# Altium footprint library con-pc.PcbLib: 5 footprints
Each footprint in its own frame and in the unit in brackets; x right, y up, seen from the top. Pads: shape width x height; smd on the part's side, far side on the other; paste and mask are expansions set on the pad; w line width, h text height; cw(c..) or ccw(c..) is an arc to the next point about the centre after c.
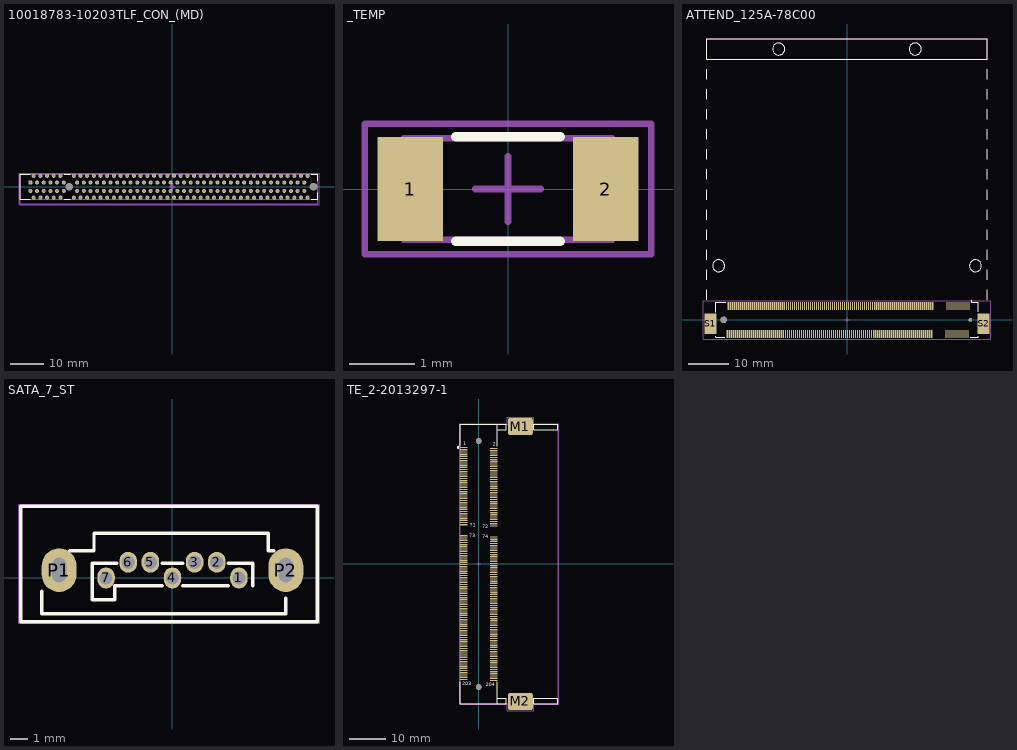
[diagram p0: the footprints below, top view; thin cyan lines are the x and y axes]

## 10018783-10203TLF_CON_(MD) [mm] "PCIe x16 Amphenol"
pads (166):
  rrect50% 1.2x1.2 hole 0.7: A1(-42.4,1.238)
  round 1.2 hole 0.7: A2(-41.4,3.238) A3(-40.4,1.238) A4(-39.4,3.238) A5(-38.4,1.238) A6(-37.4,3.238) A7(-36.4,1.238) A8(-35.4,3.238) A9(-34.4,1.238) A10(-33.4,3.238) A11(-32.4,1.238) A12(-29.4,3.238) A13(-28.4,1.238) A14(-27.4,3.238) A15(-26.4,1.238) A16(-25.4,3.238) A17(-24.4,1.238) A18(-23.4,3.238) A19(-22.4,1.238) A20(-21.4,3.238) A21(-20.4,1.238) A22(-19.4,3.238) A23(-18.4,1.238) A24(-17.4,3.238) A25(-16.4,1.238) A26(-15.4,3.238) A27(-14.4,1.238) A28(-13.4,3.238) A29(-12.4,1.238) A30(-11.4,3.238) A31(-10.4,1.238) A32(-9.4,3.238) A33(-8.4,1.238) A34(-7.4,3.238) A35(-6.4,1.238) A36(-5.4,3.238) A37(-4.4,1.238) A38(-3.4,3.238) A39(-2.4,1.238) A40(-1.4,3.238) A41(-0.4,1.238) A42(0.6,3.238) A43(1.6,1.238) A44(2.6,3.238) A45(3.6,1.238) A46(4.6,3.238) A47(5.6,1.238) A48(6.6,3.238) A49(7.6,1.238) A50(8.6,3.238) A51(9.6,1.238) A52(10.6,3.238) A53(11.6,1.238) A54(12.6,3.238) A55(13.6,1.238) A56(14.6,3.238) A57(15.6,1.238) A58(16.6,3.238) A59(17.6,1.238) A60(18.6,3.238) A61(19.6,1.238) A62(20.6,3.238) A63(21.6,1.238) A64(22.6,3.238) A65(23.6,1.238) A66(24.6,3.238) A67(25.6,1.238) A68(26.6,3.238) A69(27.6,1.238) A70(28.6,3.238) A71(29.6,1.238) A72(30.6,3.238) A73(31.6,1.238) A74(32.6,3.238) A75(33.6,1.238) A76(34.6,3.238) A77(35.6,1.238) A78(36.6,3.238) A79(37.6,1.238) A80(38.6,3.238) A81(39.6,1.238) A82(40.6,3.238) B1(-42.4,-1.262) B2(-41.4,-3.262) B3(-40.4,-1.262) B4(-39.4,-3.262) B5(-38.4,-1.262) B6(-37.4,-3.262) B7(-36.4,-1.262) B8(-35.4,-3.262) B9(-34.4,-1.262) B10(-33.4,-3.262) B11(-32.4,-1.262) B12(-29.4,-3.262) B13(-28.4,-1.262) B14(-27.4,-3.262) B15(-26.4,-1.262) B16(-25.4,-3.262) B17(-24.4,-1.262) B18(-23.4,-3.262) B19(-22.4,-1.262) B20(-21.4,-3.262) B21(-20.4,-1.262) B22(-19.4,-3.262) B23(-18.4,-1.262) B24(-17.4,-3.262) B25(-16.4,-1.262) B26(-15.4,-3.262) B27(-14.4,-1.262) B28(-13.4,-3.262) B29(-12.4,-1.262) B30(-11.4,-3.262) B31(-10.4,-1.262) B32(-9.4,-3.262) B33(-8.4,-1.262) B34(-7.4,-3.262) B35(-6.4,-1.262) B36(-5.4,-3.262) B37(-4.4,-1.262) B38(-3.4,-3.262) B39(-2.4,-1.262) B40(-1.4,-3.262) B41(-0.4,-1.262) B42(0.6,-3.262) B43(1.6,-1.262) B44(2.6,-3.262) B45(3.6,-1.262) B46(4.6,-3.262) B47(5.6,-1.262) B48(6.6,-3.262) B49(7.6,-1.262) B50(8.6,-3.262) B51(9.6,-1.262) B52(10.6,-3.262) B53(11.6,-1.262) B54(12.6,-3.262) B55(13.6,-1.262) B56(14.6,-3.262) B57(15.6,-1.262) B58(16.6,-3.262) B59(17.6,-1.262) B60(18.6,-3.262) B61(19.6,-1.262) B62(20.6,-3.262) B63(21.6,-1.262) B64(22.6,-3.262) B65(23.6,-1.262) B66(24.6,-3.262) B67(25.6,-1.262) B68(26.6,-3.262) B69(27.6,-1.262) B70(28.6,-3.262) B71(29.6,-1.262) B72(30.6,-3.262) B73(31.6,-1.262) B74(32.6,-3.262) B75(33.6,-1.262) B76(34.6,-3.262) B77(35.6,-1.262) B78(36.6,-3.262) B79(37.6,-1.262) B80(38.6,-3.262) B81(39.6,-1.262) B82(40.6,-3.262)
  round 0 hole 2.35 unplated mask+0.05: ""(-30.75,-0.012) ""(42.4,-0.012)
Top Overlay:
  lines w0.2: -42.4,-3.712 -45.4,-3.712 -45.4,3.688 -42.4,3.688 ; -32.3,-3.712 -30.5,-3.712 ; -32.3,3.688 -30.5,3.688 ; 41.7,-3.712 43.6,-3.712 43.6,-1.812 ; 41.7,3.688 43.6,3.688 43.6,1.788
Top Assembly (Mech3):
  lines w0.1: -45.4,-3.712 43.6,-3.712 ; -45.4,-5.112 -45.4,3.688 43.6,3.688 43.6,-5.112 -45.4,-5.112
  text ".Designator" at -5.998,-0.412 h1.2
Top Courtyard:
  circle w0.05: c-30.75,-0.012 r0.25
  circle w0.05: c0,0 r0.5
  lines w0.05: -31.085,-0.012 -30.415,-0.012 ; -30.75,-0.347 -30.75,0.323 ; -1,0 1,0 ; 0,-1 0,1 ; -45.8,-5.473 44,-5.473 44,4.088 -45.8,4.088 -45.8,-5.473
  lines w0.1: -0.5,0 0.5,0 ; 0,-0.5 0,0.5
3D body "AMPHENOL_10018783-10203TLF.x_t": height 11, standoff -4.4, extent -45.374,-5.116 43.626,3.684

## _TEMP [mm]
height 0.6
pads (2):
  rect 1x1.6 smd: 1(-1.5,0) 2(1.5,0)
Top Overlay:
  lines w0.15: -0.8,-0.8 0.8,-0.8 ; -0.8,0.8 0.8,0.8
Top Assembly (Mech3):
  lines w0.1: -1.6,-0.775 1.6,-0.775 1.6,0.775 -1.6,0.775 -1.6,-0.775
Top Courtyard:
  lines w0.1: -0.5,0 0.5,0 ; 0,-0.5 0,0.5 ; -2.2,-1 -2.2,1 2.2,1 2.2,-1 -2.2,-1
3D body "chip_1206_r.STEP": height 0.47, standoff -0.03, extent -1.65,-0.8 1.55,0.8

## ATTEND_125A-78C00 [mm]
pads (234):
  rect 0.3x2 smd: 1(30.39,3.5) 2(30.14,-3.5) 3(29.89,3.5) 4(29.64,-3.5) 5(29.39,3.5) 6(29.14,-3.5) 7(28.89,3.5) 8(28.64,-3.5) 9(28.39,3.5) 10(28.14,-3.5) 11(27.89,3.5) 12(27.64,-3.5) 13(27.39,3.5) 14(27.14,-3.5) 15(26.89,3.5) 16(26.64,-3.5) 17(26.39,3.5) 18(26.14,-3.5) 19(25.89,3.5) 20(25.64,-3.5) 21(25.39,3.5) 22(25.14,-3.5) 23(24.89,3.5) 24(24.64,-3.5) 25(21.39,3.5) 26(21.14,-3.5) 27(20.89,3.5) 28(20.64,-3.5) 29(20.39,3.5) 30(20.14,-3.5) 31(19.89,3.5) 32(19.64,-3.5) 33(19.39,3.5) 34(19.14,-3.5) 35(18.89,3.5) 36(18.64,-3.5) 37(18.39,3.5) 38(18.14,-3.5) 39(17.89,3.5) 40(17.64,-3.5) 41(17.39,3.5) 42(17.14,-3.5) 43(16.89,3.5) 44(16.64,-3.5) 45(16.39,3.5) 46(16.14,-3.5) 47(15.89,3.5) 48(15.64,-3.5) 49(15.39,3.5) 50(15.14,-3.5) 51(14.89,3.5) 52(14.64,-3.5) 53(14.39,3.5) 54(14.14,-3.5) 55(13.89,3.5) 56(13.64,-3.5) 57(13.39,3.5) 58(13.14,-3.5) 59(12.89,3.5) 60(12.64,-3.5) 61(12.39,3.5) 62(12.14,-3.5) 63(11.89,3.5) 64(11.64,-3.5) 65(11.39,3.5) 66(11.14,-3.5) 67(10.89,3.5) 68(10.64,-3.5) 69(10.39,3.5) 70(10.14,-3.5) 71(9.89,3.5) 72(9.64,-3.5) 73(9.39,3.5) 74(9.14,-3.5) 75(8.89,3.5) 76(8.64,-3.5) 77(8.39,3.5) 78(8.14,-3.5) 79(7.89,3.5) 80(7.64,-3.5) 81(7.39,3.5) 82(7.14,-3.5) 83(6.89,3.5) 84(6.64,-3.5) 85(6.39,3.5) 86(6.14,-3.5) 87(5.89,3.5) 88(5.64,-3.5) 89(5.39,3.5) 90(5.14,-3.5) 91(4.89,3.5) 92(4.64,-3.5) 93(4.39,3.5) 94(4.14,-3.5) 95(3.89,3.5) 96(3.64,-3.5) 97(3.39,3.5) 98(3.14,-3.5) 99(2.89,3.5) 100(2.64,-3.5) 101(2.39,3.5) 102(2.14,-3.5) 103(1.89,3.5) 104(1.64,-3.5) 105(1.39,3.5) 106(1.14,-3.5) 107(0.89,3.5) 108(0.64,-3.5) 109(0.39,3.5) 110(0.14,-3.5) 111(-0.11,3.5) 112(-0.36,-3.5) 113(-0.61,3.5) 114(-0.86,-3.5) 115(-1.11,3.5) 116(-1.36,-3.5) 117(-1.61,3.5) 118(-1.86,-3.5) 119(-2.11,3.5) 120(-2.36,-3.5) 121(-2.61,3.5) 122(-2.86,-3.5) 123(-3.11,3.5) 124(-3.36,-3.5) 125(-3.61,3.5) 126(-3.86,-3.5) 127(-4.11,3.5) 128(-4.36,-3.5) 129(-4.61,3.5) 130(-4.86,-3.5) 131(-5.11,3.5) 132(-5.36,-3.5) 133(-5.61,3.5) 134(-5.86,-3.5) 135(-6.11,3.5) 136(-6.36,-3.5) 137(-6.61,3.5) 138(-6.86,-3.5) 139(-7.11,3.5) 140(-7.36,-3.5) 141(-7.61,3.5) 142(-7.86,-3.5) 143(-8.11,3.5) 144(-8.36,-3.5) 145(-8.61,3.5) 146(-8.86,-3.5) 147(-9.11,3.5) 148(-9.36,-3.5) 149(-9.61,3.5) 150(-9.86,-3.5) 151(-10.11,3.5) 152(-10.36,-3.5) 153(-10.61,3.5) 154(-10.86,-3.5) 155(-11.11,3.5) 156(-11.36,-3.5) 157(-11.61,3.5) 158(-11.86,-3.5) 159(-12.11,3.5) 160(-12.36,-3.5) 161(-12.61,3.5) 162(-12.86,-3.5) 163(-13.11,3.5) 164(-13.36,-3.5) 165(-13.61,3.5) 166(-13.86,-3.5) 167(-14.11,3.5) 168(-14.36,-3.5) 169(-14.61,3.5) 170(-14.86,-3.5) 171(-15.11,3.5) 172(-15.36,-3.5) 173(-15.61,3.5) 174(-15.86,-3.5) 175(-16.11,3.5) 176(-16.36,-3.5) 177(-16.61,3.5) 178(-16.86,-3.5) 179(-17.11,3.5) 180(-17.36,-3.5) 181(-17.61,3.5) 182(-17.86,-3.5) 183(-18.11,3.5) 184(-18.36,-3.5) 185(-18.61,3.5) 186(-18.86,-3.5) 187(-19.11,3.5) 188(-19.36,-3.5) 189(-19.61,3.5) 190(-19.86,-3.5) 191(-20.11,3.5) 192(-20.36,-3.5) 193(-20.61,3.5) 194(-20.86,-3.5) 195(-21.11,3.5) 196(-21.36,-3.5) 197(-21.61,3.5) 198(-21.86,-3.5) 199(-22.11,3.5) 200(-22.36,-3.5) 201(-22.61,3.5) 202(-22.86,-3.5) 203(-23.11,3.5) 204(-23.36,-3.5) 205(-23.61,3.5) 206(-23.86,-3.5) 207(-24.11,3.5) 208(-24.36,-3.5) 209(-24.61,3.5) 210(-24.86,-3.5) 211(-25.11,3.5) 212(-25.36,-3.5) 213(-25.61,3.5) 214(-25.86,-3.5) 215(-26.11,3.5) 216(-26.36,-3.5) 217(-26.61,3.5) 218(-26.86,-3.5) 219(-27.11,3.5) 220(-27.36,-3.5) 221(-27.61,3.5) 222(-27.86,-3.5) 223(-28.11,3.5) 224(-28.36,-3.5) 225(-28.61,3.5) 226(-28.86,-3.5) 227(-29.11,3.5) 228(-29.36,-3.5) 229(-29.61,3.5) 230(-29.86,-3.5)
  rect 3x5.15 smd: S1(-34.06,-0.98) S2(34.06,-0.98)
  round 1.6 hole 1.6 unplated: ""(-30.75,0)
  round 0.9 hole 0.9 unplated: ""(30.75,0)
Top Overlay:
  circle w0.254: c-32,13.5 r1.5
  circle w0.254: c32,13.5 r1.5
  circle w0.254: c17,67.5 r1.5
  circle w0.254: c-17,67.5 r1.5
  circle w0.2: c31,4.75 r0.1
  lines w0.1: -35,5 -35,7.5 ; -35,10 -35,12.5 ; -35,15 -35,17.5 ; -35,20 -35,22.5 ; -35,25 -35,27.5 ; -35,30 -35,32.5 ; -35,35 -35,37.5 ; -35,40 -35,42.5 ; -35,45 -35,47.5 ; -35,50 -35,52.5 ; -35,55 -35,57.5 ; -35,60 -35,62.5 ; 35,5 35,7.5 ; 35,10 35,12.5 ; 35,15 35,17.5 ; 35,20 35,22.5 ; 35,25 35,27.5 ; 35,30 35,32.5 ; 35,35 35,37.5 ; 35,40 35,42.5 ; 35,45 35,47.5 ; 35,50 35,52.5 ; 35,55 35,57.5 ; 35,60 35,62.5
  lines w0.127: -35,70 35,70 ; -32.7,-4.027 -32.7,-4.35 -30.45,-4.35 ; -32.7,1.95 -32.7,4.35 -30.15,4.35 ; 30.7,-4.35 32.7,-4.35 32.7,-4.027 ; 30.9,4.35 32.7,4.35 32.7,2
  lines w0.254: -35,65 35,65 ; -35,65 -35,70 ; -35,65 35,65 ; -35,65 -35,70 ; -35,70 35,70 ; -35,70 35,70 ; 35,65 35,70 ; 35,65 35,70
Top Assembly (Mech3):
  lines w0.05: -35.81,-4.75 35.81,-4.75 35.81,4.8 -35.81,4.8 -35.81,-4.75
  text ".Designator" at 1.14,-0.412 h1.2
Top Courtyard:
  lines w0.1: -0.5,0 0.5,0 ; 0,-0.5 0,0.5 ; -35.81,-4.75 35.81,-4.75 35.81,4.8 35.5,4.8 -35.81,4.8 -35.81,-4.75 ; -35,65 35,65 35,70 -35,70 -35,65
3D body "125A-78C00--3DModel-STEP-56544.STEP": height 7.83, standoff -0.67, extent -34.655,-4.373 34.675,4.327

## SATA_7_ST [mm] "Serial ATA/Vertical/THD/Locking Latch/Footprint molex pn:67800-8001"
height 8.4
pads (9):
  oval 1x1.2 hole 0.75: 1(3.81,0) 2(2.54,0.9) 3(1.27,0.9) 4(0,0) 5(-1.27,0.9) 6(-2.54,0.9) 7(-3.81,0)
  oval 2x2.5 hole 0.8 slot 1.4 at 90 deg: P1(-6.5,0.45) P2(6.5,0.45)
Top Overlay:
  lines w0.2: -7.5,-0.75 -7.5,-2.05 6.5,-2.05 6.5,-1.15 ; -5.9,1.55 -4.5,1.55 -4.5,2.55 5.5,2.55 5.5,1.55 5.8,1.55 ; -3.2,0.85 -4.6,0.85 -4.6,-1.25 -3.3,-1.25 -3.3,-0.45 -0.6,-0.45 ; -0.6,0.85 0.6,0.85 ; 0.6,-0.45 3.2,-0.45 ; 3.2,0.85 4.6,0.85 4.6,-0.45 ; -8.7,-2.5 8.3,-2.5 8.3,4.1 -8.7,4.1 -8.7,-2.5
Top Assembly (Mech3):
  lines w0.1: -8.7,-2.5 8.3,-2.5 8.3,4.1 -8.7,4.1 -8.7,-2.5
Top Courtyard:
  lines w0.1: -0.5,0 0.5,0 ; 0,-0.5 0,0.5 ; -8.8,-2.6 8.4,-2.6 8.4,4.2 -8.8,4.2 -8.8,-2.6
3D body "SATA Molex SD-47155-004.STEP": height 8.4, standoff -2.65, extent -8.65,-2.425 8.25,4.025

## TE_2-2013297-1 [mm] "SODIMM DDR3"
height 0.6
pads (208):
  rrect50% 2x0.35 smd: 1(-4.1,31.65) 2(4.1,31.35) 3(-4.1,31.05) 4(4.1,30.75) 5(-4.1,30.45) 6(4.1,30.15) 7(-4.1,29.85) 8(4.1,29.55) 9(-4.1,29.25) 10(4.1,28.95) 11(-4.1,28.65) 12(4.1,28.35) 13(-4.1,28.05) 14(4.1,27.75) 15(-4.1,27.45) 16(4.1,27.15) 17(-4.1,26.85) 18(4.1,26.55) 19(-4.1,26.25) 20(4.1,25.95) 21(-4.1,25.65) 22(4.1,25.35) 23(-4.1,25.05) 24(4.1,24.75) 25(-4.1,24.45) 26(4.1,24.15) 27(-4.1,23.85) 28(4.1,23.55) 29(-4.1,23.25) 30(4.1,22.95) 31(-4.1,22.65) 32(4.1,22.35) 33(-4.1,22.05) 34(4.1,21.75) 35(-4.1,21.45) 36(4.1,21.15) 37(-4.1,20.85) 38(4.1,20.55) 39(-4.1,20.25) 40(4.1,19.95) 41(-4.1,19.65) 42(4.1,19.35) 43(-4.1,19.05) 44(4.1,18.75) 45(-4.1,18.45) 46(4.1,18.15) 47(-4.1,17.85) 48(4.1,17.55) 49(-4.1,17.25) 50(4.1,16.95) 51(-4.1,16.65) 52(4.1,16.35) 53(-4.1,16.05) 54(4.1,15.75) 55(-4.1,15.45) 56(4.1,15.15) 57(-4.1,14.85) 58(4.1,14.55) 59(-4.1,14.25) 60(4.1,13.95) 61(-4.1,13.65) 62(4.1,13.35) 63(-4.1,13.05) 64(4.1,12.75) 65(-4.1,12.45) 66(4.1,12.15) 67(-4.1,11.85) 68(4.1,11.55) 69(-4.1,11.25) 70(4.1,10.95) 71(-4.1,10.65) 72(4.1,10.35) 73(-4.1,7.65) 74(4.1,7.35) 75(-4.1,7.05) 76(4.1,6.75) 77(-4.1,6.45) 78(4.1,6.15) 79(-4.1,5.85) 80(4.1,5.55) 81(-4.1,5.25) 82(4.1,4.95) 83(-4.1,4.65) 84(4.1,4.35) 85(-4.1,4.05) 86(4.1,3.75) 87(-4.1,3.45) 88(4.1,3.15) 89(-4.1,2.85) 90(4.1,2.55) 91(-4.1,2.25) 92(4.1,1.95) 93(-4.1,1.65) 94(4.1,1.35) 95(-4.1,1.05) 96(4.1,0.75) 97(-4.1,0.45) 98(4.1,0.15) 99(-4.1,-0.15) 100(4.1,-0.45) 101(-4.1,-0.75) 102(4.1,-1.05) 103(-4.1,-1.35) 104(4.1,-1.65) 105(-4.1,-1.95) 106(4.1,-2.25) 107(-4.1,-2.55) 108(4.1,-2.85) 109(-4.1,-3.15) 110(4.1,-3.45) 111(-4.1,-3.75) 112(4.1,-4.05) 113(-4.1,-4.35) 114(4.1,-4.65) 115(-4.1,-4.95) 116(4.1,-5.25) 117(-4.1,-5.55) 118(4.1,-5.85) 119(-4.1,-6.15) 120(4.1,-6.45) 121(-4.1,-6.75) 122(4.1,-7.05) 123(-4.1,-7.35) 124(4.1,-7.65) 125(-4.1,-7.95) 126(4.1,-8.25) 127(-4.1,-8.55) 128(4.1,-8.85) 129(-4.1,-9.15) 130(4.1,-9.45) 131(-4.1,-9.75) 132(4.1,-10.05) 133(-4.1,-10.35) 134(4.1,-10.65) 135(-4.1,-10.95) 136(4.1,-11.25) 137(-4.1,-11.55) 138(4.1,-11.85) 139(-4.1,-12.15) 140(4.1,-12.45) 141(-4.1,-12.75) 142(4.1,-13.05) 143(-4.1,-13.35) 144(4.1,-13.65) 145(-4.1,-13.95) 146(4.1,-14.25) 147(-4.1,-14.55) 148(4.1,-14.85) 149(-4.1,-15.15) 150(4.1,-15.45) 151(-4.1,-15.75) 152(4.1,-16.05) 153(-4.1,-16.35) 154(4.1,-16.65) 155(-4.1,-16.95) 156(4.1,-17.25) 157(-4.1,-17.55) 158(4.1,-17.85) 159(-4.1,-18.15) 160(4.1,-18.45) 161(-4.1,-18.75) 162(4.1,-19.05) 163(-4.1,-19.35) 164(4.1,-19.65) 165(-4.1,-19.95) 166(4.1,-20.25) 167(-4.1,-20.55) 168(4.1,-20.85) 169(-4.1,-21.15) 170(4.1,-21.45) 171(-4.1,-21.75) 172(4.1,-22.05) 173(-4.1,-22.35) 174(4.1,-22.65) 175(-4.1,-22.95) 176(4.1,-23.25) 177(-4.1,-23.55) 178(4.1,-23.85) 179(-4.1,-24.15) 180(4.1,-24.45) 181(-4.1,-24.75) 182(4.1,-25.05) 183(-4.1,-25.35) 184(4.1,-25.65) 185(-4.1,-25.95) 186(4.1,-26.25) 187(-4.1,-26.55) 188(4.1,-26.85) 189(-4.1,-27.15) 190(4.1,-27.45) 191(-4.1,-27.75) 192(4.1,-28.05) 193(-4.1,-28.35) 194(4.1,-28.65) 195(-4.1,-28.95) 196(4.1,-29.25) 197(-4.1,-29.55) 198(4.1,-29.85) 199(-4.1,-30.15) 200(4.1,-30.45) 201(-4.1,-30.75) 202(4.1,-31.05) 203(-4.1,-31.35) 204(4.1,-31.65)
  round 1.6 hole 1.6: M1(0,33.4) M2(0,-33.4)
  rrect25% 6.8x4.7 smd: M1(11.3,37.35) M2(11.3,-37.35)
Top Overlay:
  circle w0.1: c-5.6,31.7 r0.224
  lines w0.1: -5,-32 -5,-38 5,-38 ; -5,32 -5,38 5,38 ; 5,-36.5 7.5,-36.5 7.5,-38 5,-38 ; 5,-32 5,-38 ; 5,32 5,38 ; 5,36.5 7.5,36.5 7.5,38 5,38 ; 15,-38 15,-36.5 21.5,-36.5 21.5,-38 15,-38 ; 15,36.5 15,38 21.5,38 21.5,36.5 15,36.5
  text "1" at -4.25,32.3 h1
  text "2" at 3.75,32.15 h1
  text "203" at -4.55,-32.95 h1
  text "204" at 1.95,-33.15 h1
  text "71" at -2.5,10.15 h1
  text "73" at -2.65,7.25 h1
  text "72" at 0.95,9.75 h1
  text "74" at 0.95,7.05 h1
Top Assembly (Mech3):
  lines w0.1: -5.1,-38 21.6,-38 21.6,38 -5.1,38 -5.1,-38
  text ".Designator" at 11.6,-13.995 h3
Top Courtyard:
  lines w0.1: -0.5,0 0.5,0 ; 0,-0.5 0,0.5 ; -5.2,-38.1 7.7,-38.1 7.7,-39.9 14.9,-39.9 14.9,-38.1 21.7,-38.1 21.7,38.1 14.9,38.1 14.9,39.9 8.2,39.9 7.7,39.9 7.7,38.1 -5.2,38.1 -5.2,-38.1
3D body "c-2013297-1-c-3d.stp": height 8.35, standoff -0.6, extent -5.05,-37.95 21.508,37.95